# Altium schematic symbol library SLLC-ETD39-48.SchLib: 1 symbol
Pins are listed as number, name and electrical type; pins without a type are passive.

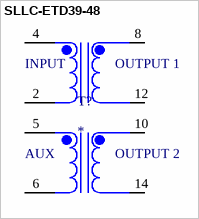
[diagram p0: symbol SLLC-ETD39-48]

## SLLC-ETD39-48
designator T?
High Frequency Resonant Transformers; MF: Signal Transformer; MP: SLLC-ETD39-48; SnapEDA_Link: https://www.snapeda.com/parts/SLLC-ETD39-48/Signal+Transformer/view-part/?ref=snap; Package: None; Value: *; Check_prices: https://www.snapeda.com/parts/SLLC-ETD39-48/Signal+Transformer/view-part/?ref=eda
footprint XFMR_SLLC-ETD39-48
pins: 2, 4, 5, 6, 8, 10, 12, 14
text: INPUT; OUTPUT 1; AUX; OUTPUT 2